# Altium integrated library NXP Semiconductors Standard MOSFETs.IntLib: 477 symbols (part 8 of 14)
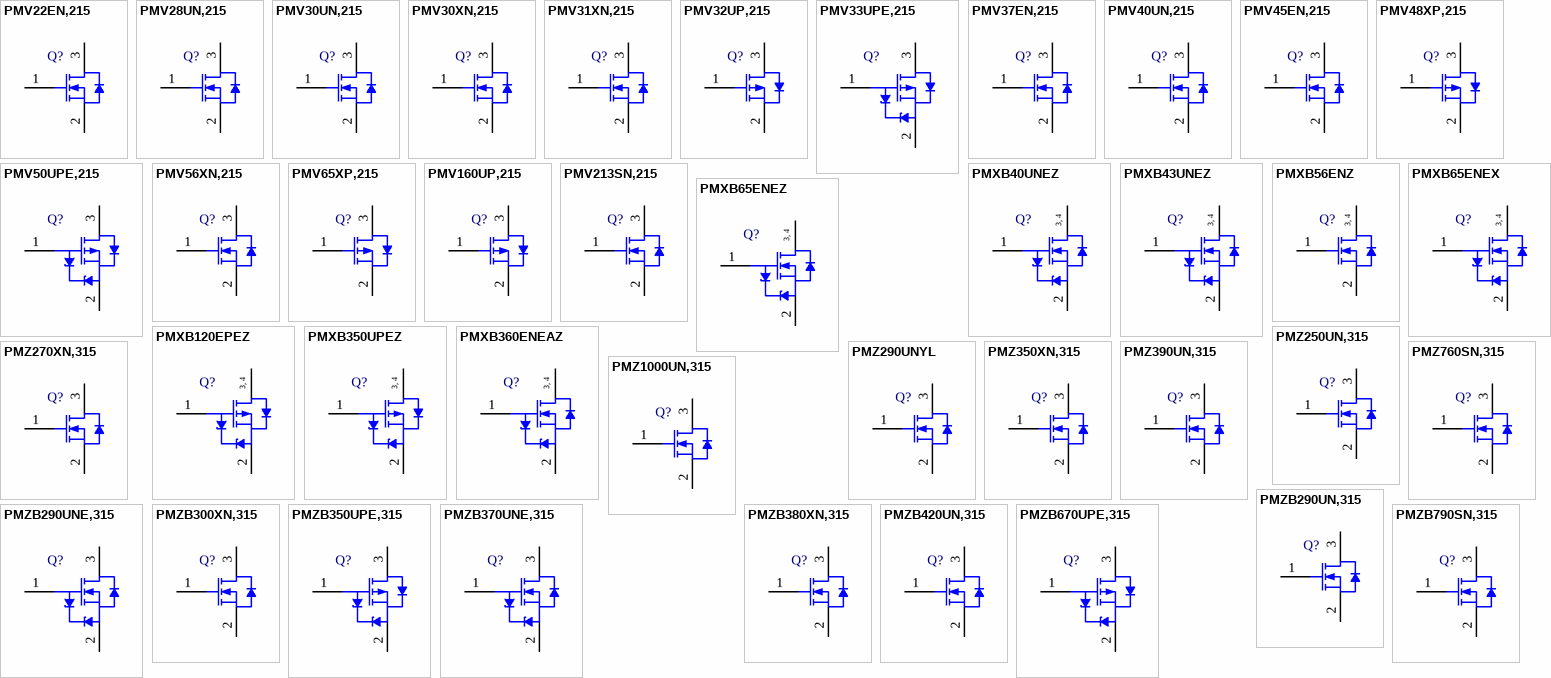
[diagram p19: symbols PMV22EN,215 to PMZB790SN,315]

## PMZ760SN,315
designator Q?
N-Channel TrenchMOS Standard Level FET, 60 V, 1.22 A, 3-Pin SOT883, Tape and Reel; Manufacturer: NXP Semiconductors; PartNumber: PMZ760SN,315; Channel Type: N; Ciss [typ] (pF): 23; Coss [typ] (pF): 4.8; ID [max] (A): 1.22; Packing: Tape & Reel; VDS [max] (V): 60; VGSth [typ] (V): 2; DatasheetVersion: Rev. 02; PackageVersion: 03-04-03, 04/2003; PackageReference: SOT883; PackageDescription: 3-Pin Small Outline No-Lead, Body 0.585 x 0.985 mm, Pitch 0.35 mm; Supplier 1: Digi-Key; Supplier Part Number 1: 568-7443-2-ND; Supplier 2: Digi-Key; Supplier Part Number 2: 568-7443-1-ND; Supplier 3: Digi-Key; Supplier Part Number 3: 568-7443-6-ND; Supplier 4: Farnell; Supplier Part Number 4: 1758122RL; Supplier 5: Newark; Supplier Part Number 5: 79R2052; Supplier 6: Mouser; Supplier Part Number 6: 771-PMZ760SN315; Mounting Technology: Surface Mount; Code_JEITA: SC-101; ComponentLink1Description: Manufacturer URL; ComponentLink1URL: http://www.nxp.com/; ComponentLink2Description: Datasheet; ComponentLink2URL: http://www.nxp.com/documents/data_sheet/PMZ760SN.pdf; ComponentLink3Description: Package Specification; ComponentLink3URL: http://www.nxp.com/documents/outline_drawing/sot883_po.pdf
footprint NXP-SOT883_N (SON, 3-Leads, Body 1.02x0.62mm, Pitch 0.35mm, IPC Medium Density)
footprint NXP-SOT883_L (SON, 3-Leads, Body 1.02x0.62mm, Pitch 0.35mm, IPC High Density)
footprint NXP-SOT883_M (SON, 3-Leads, Body 1.02x0.62mm, Pitch 0.35mm, IPC Low Density)
pins: 1 G "gate", 2 S "source", 3 D "drain"

## PMZ1000UN,315
designator Q?
N-Channel TrenchMOS Standard Level FET, 30 V, 0.48 A, 3-Pin SOT883, Tape and Reel; Manufacturer: NXP Semiconductors; PartNumber: PMZ1000UN,315; Channel Type: N; Ciss [typ] (pF): 43; Coss [typ] (pF): 7.7; ID [max] (A): 0.48; Packing: Tape & Reel; VDS [max] (V): 30; VGSth [typ] (V): 0.7; DatasheetVersion: Rev. 2; PackageVersion: 03-04-03, 04/2003; PackageReference: SOT883; PackageDescription: 3-Pin Small Outline No-Lead, Body 0.585 x 0.985 mm, Pitch 0.35 mm; Supplier 1: Digi-Key; Supplier Part Number 1: 568-7439-2-ND; Supplier 2: Digi-Key; Supplier Part Number 2: 568-7439-1-ND; Supplier 3: Digi-Key; Supplier Part Number 3: 568-7439-6-ND; Supplier 4: Newark; Supplier Part Number 4: 70R7874; Supplier 5: Mouser; Supplier Part Number 5: 771-PMZ1000UN315; Mounting Technology: Surface Mount; Code_JEITA: SC-101; ComponentLink1Description: Manufacturer URL; ComponentLink1URL: http://www.nxp.com/; ComponentLink2Description: Datasheet; ComponentLink2URL: http://www.nxp.com/documents/data_sheet/PMZ1000UN.pdf; ComponentLink3Description: Package Specification; ComponentLink3URL: http://www.nxp.com/documents/outline_drawing/sot883_po.pdf
footprint NXP-SOT883_N (SON, 3-Leads, Body 1.02x0.62mm, Pitch 0.35mm, IPC Medium Density)
footprint NXP-SOT883_L (SON, 3-Leads, Body 1.02x0.62mm, Pitch 0.35mm, IPC High Density)
footprint NXP-SOT883_M (SON, 3-Leads, Body 1.02x0.62mm, Pitch 0.35mm, IPC Low Density)
pins: 1 G "gate", 2 S "source", 3 D "drain"

## PMZB290UN,315
designator Q?
Single N-Channel Trench MOSFET, 20 V, 1 A, -55 to 150 degC, 3-Pin SOT883B, Reel; Manufacturer: NXP Semiconductors; PartNumber: PMZB290UN,315; Channel Type: N; Ciss [typ] (pF): 45; Coss [typ] (pF): 11; ID [max] (A): 1; VDS [max] (V): 20; VGSth [typ] (V): 0.7; DatasheetVersion: Rev. 1; PackageVersion: 12-01-03, 01/2012; PackageReference: SOT883B; PackageDescription: 3-Pin Small Outline No-Lead, Body 0.6 x 1 mm, Pitch 0.35 mm; Supplier 1: Digi-Key; Supplier Part Number 1: 568-10448-2-ND; Supplier 2: Digi-Key; Supplier Part Number 2: 568-10448-1-ND; Supplier 3: Digi-Key; Supplier Part Number 3: 568-10448-6-ND; Supplier 4: Mouser; Supplier Part Number 4: 771-PMZB290UN,315; Packing: Reel; Mounting Technology: Surface Mount; ComponentLink1Description: Manufacturer URL; ComponentLink1URL: http://www.nxp.com/; ComponentLink2Description: Datasheet; ComponentLink2URL: http://www.nxp.com/documents/data_sheet/PMZB290UN.pdf; ComponentLink3Description: Package Specification; ComponentLink3URL: http://www.nxp.com/documents/outline_drawing/sot883b_po.pdf
footprint NXP-SOT883B_N (SON, 3-Leads, Body 1.05x0.65mm, Pitch 0.35mm, IPC Medium Density)
footprint NXP-SOT883B_L (SON, 3-Leads, Body 1.05x0.65mm, Pitch 0.35mm, IPC High Density)
footprint NXP-SOT883B_M (SON, 3-Leads, Body 1.05x0.65mm, Pitch 0.35mm, IPC Low Density)
pins: 1 G "gate", 2 S "source", 3 D "drain"

## PMZB290UNE,315
designator Q?
Single N-Channel Trench MOSFET, 20 V, 1 A, -55 to 150 degC, 3-Pin SOT883B, Reel; Manufacturer: NXP Semiconductors; PartNumber: PMZB290UNE,315; Channel Type: N; Ciss [typ] (pF): 55; Coss [typ] (pF): 15; ID [max] (A): 1; VDS [max] (V): 20; VGSth [typ] (V): 0.75; DatasheetVersion: Rev. 3; PackageVersion: 12-01-03, 01/2012; PackageReference: SOT883B; PackageDescription: 3-Pin Small Outline No-Lead, Body 0.6 x 1 mm, Pitch 0.35 mm; Supplier 1: Digi-Key; Supplier Part Number 1: 568-10840-2-ND; Supplier 2: Digi-Key; Supplier Part Number 2: 568-10840-1-ND; Supplier 3: Digi-Key; Supplier Part Number 3: 568-10840-6-ND; Supplier 4: Mouser; Supplier Part Number 4: 771-PMZB290UNE315; Packing: Reel; Mounting Technology: Surface Mount; ComponentLink1Description: Manufacturer URL; ComponentLink1URL: http://www.nxp.com/; ComponentLink2Description: Datasheet; ComponentLink2URL: http://www.nxp.com/documents/data_sheet/PMZB290UNE.pdf; ComponentLink3Description: Package Specification; ComponentLink3URL: http://www.nxp.com/documents/outline_drawing/sot883b_po.pdf
footprint NXP-SOT883B_N (SON, 3-Leads, Body 1.05x0.65mm, Pitch 0.35mm, IPC Medium Density)
footprint NXP-SOT883B_L (SON, 3-Leads, Body 1.05x0.65mm, Pitch 0.35mm, IPC High Density)
footprint NXP-SOT883B_M (SON, 3-Leads, Body 1.05x0.65mm, Pitch 0.35mm, IPC Low Density)
pins: 1 G "gate", 2 S "source", 3 D "drain"

## PMZB300XN,315
designator Q?
Single N-Channel Trench MOSFET, 20 V, 1 A, -55 to 150 degC, 3-Pin SOT883B, Reel; Manufacturer: NXP Semiconductors; PartNumber: PMZB300XN,315; Channel Type: N; Ciss [typ] (pF): 34; Coss [typ] (pF): 12; ID [max] (A): 1; VDS [max] (V): 20; DatasheetVersion: Rev. 1; PackageVersion: 12-01-03, 01/2012; PackageReference: SOT883B; PackageDescription: 3-Pin Small Outline No-Lead, Body 0.6 x 1 mm, Pitch 0.35 mm; Supplier 1: Digi-Key; Supplier Part Number 1: 568-10841-2-ND; Supplier 2: Digi-Key; Supplier Part Number 2: 568-10841-1-ND; Supplier 3: Digi-Key; Supplier Part Number 3: 568-10841-6-ND; Supplier 4: Mouser; Supplier Part Number 4: 771-PMZB300XN,315; Packing: Reel; VGSth [typ] (V): 1; Mounting Technology: Surface Mount; ComponentLink1Description: Manufacturer URL; ComponentLink1URL: http://www.nxp.com/; ComponentLink2Description: Datasheet; ComponentLink2URL: http://www.nxp.com/documents/data_sheet/PMZB300XN.pdf; ComponentLink3Description: Package Specification; ComponentLink3URL: http://www.nxp.com/documents/outline_drawing/sot883b_po.pdf
footprint NXP-SOT883B_N (SON, 3-Leads, Body 1.05x0.65mm, Pitch 0.35mm, IPC Medium Density)
footprint NXP-SOT883B_L (SON, 3-Leads, Body 1.05x0.65mm, Pitch 0.35mm, IPC High Density)
footprint NXP-SOT883B_M (SON, 3-Leads, Body 1.05x0.65mm, Pitch 0.35mm, IPC Low Density)
pins: 1 G "gate", 2 S "source", 3 D "drain"

## PMZB350UPE,315
designator Q?
Single P-Channel Trench MOSFET, -20 V, -55 to 150 degC, 3-Pin SOT883B, Reel; Manufacturer: NXP Semiconductors; PartNumber: PMZB350UPE,315; Channel Type: P; Ciss [typ] (pF): 127; Coss [typ] (pF): 34; VGSth [typ] (V): -0.7; DatasheetVersion: Rev. 1; PackageVersion: 12-01-03, 01/2012; PackageReference: SOT883B; PackageDescription: 3-Pin Small Outline No-Lead, Body 0.6 x 1 mm, Pitch 0.35 mm; Supplier 1: Digi-Key; Supplier Part Number 1: 568-10449-2-ND; Supplier 2: Digi-Key; Supplier Part Number 2: 568-10449-1-ND; Supplier 3: Digi-Key; Supplier Part Number 3: 568-10449-6-ND; Supplier 4: Mouser; Supplier Part Number 4: 771-PMZB350UPE315; Packing: Reel; VDS [max] (V): -20; Mounting Technology: Surface Mount; ComponentLink1Description: Manufacturer URL; ComponentLink1URL: http://www.nxp.com/; ComponentLink2Description: Datasheet; ComponentLink2URL: http://www.nxp.com/documents/data_sheet/PMZB350UPE.pdf; ComponentLink3Description: Package Specification; ComponentLink3URL: http://www.nxp.com/documents/outline_drawing/sot883b_po.pdf
footprint NXP-SOT883B_N (SON, 3-Leads, Body 1.05x0.65mm, Pitch 0.35mm, IPC Medium Density)
footprint NXP-SOT883B_L (SON, 3-Leads, Body 1.05x0.65mm, Pitch 0.35mm, IPC High Density)
footprint NXP-SOT883B_M (SON, 3-Leads, Body 1.05x0.65mm, Pitch 0.35mm, IPC Low Density)
pins: 1 G "gate", 2 S "source", 3 D "drain"

## PMZB370UNE,315
designator Q?
Single N-Channel Trench MOSFET, 30 V, 0.9 A, -55 to 150 degC, 3-Pin SOT883B, Reel; Manufacturer: NXP Semiconductors; PartNumber: PMZB370UNE,315; Channel Type: N; Ciss [typ] (pF): 52; Coss [typ] (pF): 9; ID [max] (A): 0.9; VDS [max] (V): 30; VGSth [typ] (V): 0.77; DatasheetVersion: Rev. 1; PackageVersion: 12-01-03, 01/2012; PackageReference: SOT883B; PackageDescription: 3-Pin Small Outline No-Lead, Body 0.6 x 1 mm, Pitch 0.35 mm; Supplier 1: Digi-Key; Supplier Part Number 1: 568-10842-2-ND; Supplier 2: Digi-Key; Supplier Part Number 2: 568-10842-1-ND; Supplier 3: Digi-Key; Supplier Part Number 3: 568-10842-6-ND; Supplier 4: Mouser; Supplier Part Number 4: 771-PMZB370UNE315; Packing: Reel; Mounting Technology: Surface Mount; ComponentLink1Description: Manufacturer URL; ComponentLink1URL: http://www.nxp.com/; ComponentLink2Description: Datasheet; ComponentLink2URL: http://www.nxp.com/documents/data_sheet/PMZB370UNE.pdf; ComponentLink3Description: Package Specification; ComponentLink3URL: http://www.nxp.com/documents/outline_drawing/sot883b_po.pdf
footprint NXP-SOT883B_N (SON, 3-Leads, Body 1.05x0.65mm, Pitch 0.35mm, IPC Medium Density)
footprint NXP-SOT883B_L (SON, 3-Leads, Body 1.05x0.65mm, Pitch 0.35mm, IPC High Density)
footprint NXP-SOT883B_M (SON, 3-Leads, Body 1.05x0.65mm, Pitch 0.35mm, IPC Low Density)
pins: 1 G "gate", 2 S "source", 3 D "drain"

## PMZB380XN,315
designator Q?
Single N-Channel Trench MOSFET, 30 V, 0.93 A, -55 to 150 degC, 3-Pin SOT883B, Reel; Manufacturer: NXP Semiconductors; PartNumber: PMZB380XN,315; Channel Type: N; Ciss [typ] (pF): 37; Coss [typ] (pF): 8.6; ID [max] (A): 0.93; VDS [max] (V): 30; VGSth [typ] (V): 1; DatasheetVersion: Rev. 1; PackageVersion: 12-01-03, 01/2012; PackageReference: SOT883B; PackageDescription: 3-Pin Small Outline No-Lead, Body 0.6 x 1 mm, Pitch 0.35 mm; Supplier 1: Digi-Key; Supplier Part Number 1: 568-10843-2-ND; Supplier 2: Digi-Key; Supplier Part Number 2: 568-10843-1-ND; Supplier 3: Digi-Key; Supplier Part Number 3: 568-10843-6-ND; Supplier 4: Mouser; Supplier Part Number 4: 771-PMZB380XN,315; Packing: Reel; Mounting Technology: Surface Mount; ComponentLink1Description: Manufacturer URL; ComponentLink1URL: http://www.nxp.com/; ComponentLink2Description: Datasheet; ComponentLink2URL: http://www.nxp.com/documents/data_sheet/PMZB380XN.pdf; ComponentLink3Description: Package Specification; ComponentLink3URL: http://www.nxp.com/documents/outline_drawing/sot883b_po.pdf
footprint NXP-SOT883B_N (SON, 3-Leads, Body 1.05x0.65mm, Pitch 0.35mm, IPC Medium Density)
footprint NXP-SOT883B_L (SON, 3-Leads, Body 1.05x0.65mm, Pitch 0.35mm, IPC High Density)
footprint NXP-SOT883B_M (SON, 3-Leads, Body 1.05x0.65mm, Pitch 0.35mm, IPC Low Density)
pins: 1 G "gate", 2 S "source", 3 D "drain"

## PMZB420UN,315
designator Q?
Single N-Channel Trench MOSFET, 30 V, 0.9 A, -55 to 150 degC, 3-Pin SOT883B, Reel; Manufacturer: NXP Semiconductors; PartNumber: PMZB420UN,315; Channel Type: N; Ciss [typ] (pF): 43; Coss [typ] (pF): 7.7; ID [max] (A): 0.9; VDS [max] (V): 30; VGSth [typ] (V): 0.7; DatasheetVersion: Rev. 1; PackageVersion: 12-01-03, 01/2012; PackageReference: SOT883B; PackageDescription: 3-Pin Small Outline No-Lead, Body 0.6 x 1 mm, Pitch 0.35 mm; Supplier 1: Digi-Key; Supplier Part Number 1: 568-10844-2-ND; Supplier 2: Digi-Key; Supplier Part Number 2: 568-10844-1-ND; Supplier 3: Digi-Key; Supplier Part Number 3: 568-10844-6-ND; Supplier 4: Mouser; Supplier Part Number 4: 771-PMZB420UN,315; Packing: Reel; Mounting Technology: Surface Mount; ComponentLink1Description: Manufacturer URL; ComponentLink1URL: http://www.nxp.com/; ComponentLink2Description: Datasheet; ComponentLink2URL: http://www.nxp.com/documents/data_sheet/PMZB420UN.pdf; ComponentLink3Description: Package Specification; ComponentLink3URL: http://www.nxp.com/documents/outline_drawing/sot883b_po.pdf
footprint NXP-SOT883B_N (SON, 3-Leads, Body 1.05x0.65mm, Pitch 0.35mm, IPC Medium Density)
footprint NXP-SOT883B_L (SON, 3-Leads, Body 1.05x0.65mm, Pitch 0.35mm, IPC High Density)
footprint NXP-SOT883B_M (SON, 3-Leads, Body 1.05x0.65mm, Pitch 0.35mm, IPC Low Density)
pins: 1 G "gate", 2 S "source", 3 D "drain"

## PMZB670UPE,315
designator Q?
Single P-Channel Trench MOSFET, -20 V, -0.68 A, -55 to 150 degC, 3-Pin SOT883B, Reel; Manufacturer: NXP Semiconductors; PartNumber: PMZB670UPE,315; Channel Type: P; Ciss [typ] (pF): 58; Coss [typ] (pF): 21; VGSth [typ] (V): -0.9; DatasheetVersion: Rev. 3; PackageVersion: 12-01-03, 01/2012; PackageReference: SOT883B; PackageDescription: 3-Pin Small Outline No-Lead, Body 0.6 x 1 mm, Pitch 0.35 mm; Supplier 1: Digi-Key; Supplier Part Number 1: 568-10845-2-ND; Supplier 2: Digi-Key; Supplier Part Number 2: 568-10845-1-ND; Supplier 3: Digi-Key; Supplier Part Number 3: 568-10845-6-ND; Supplier 4: Mouser; Supplier Part Number 4: 771-PMZB670UPE315; ID [max] (A): -0.68; Packing: Reel; VDS [max] (V): -20; Mounting Technology: Surface Mount; ComponentLink1Description: Manufacturer URL; ComponentLink1URL: http://www.nxp.com/; ComponentLink2Description: Datasheet; ComponentLink2URL: http://www.nxp.com/documents/data_sheet/PMZB670UPE.pdf; ComponentLink3Description: Package Specification; ComponentLink3URL: http://www.nxp.com/documents/outline_drawing/sot883b_po.pdf
footprint NXP-SOT883B_N (SON, 3-Leads, Body 1.05x0.65mm, Pitch 0.35mm, IPC Medium Density)
footprint NXP-SOT883B_L (SON, 3-Leads, Body 1.05x0.65mm, Pitch 0.35mm, IPC High Density)
footprint NXP-SOT883B_M (SON, 3-Leads, Body 1.05x0.65mm, Pitch 0.35mm, IPC Low Density)
pins: 1 G "gate", 2 S "source", 3 D "drain"

## PMZB790SN,315
designator Q?
Single N-Channel Trench MOSFET, 60 V, 0.65 A, -55 to 150 degC, 3-Pin SOT883B, Reel; Manufacturer: NXP Semiconductors; PartNumber: PMZB790SN,315; Channel Type: N; Ciss [typ] (pF): 23; Coss [typ] (pF): 4.8; ID [max] (A): 0.65; VDS [max] (V): 60; VGSth [typ] (V): 2; DatasheetVersion: Rev. 1; PackageVersion: 12-01-03, 01/2012; PackageReference: SOT883B; PackageDescription: 3-Pin Small Outline No-Lead, Body 0.6 x 1 mm, Pitch 0.35 mm; Supplier 1: Digi-Key; Supplier Part Number 1: 568-10846-2-ND; Supplier 2: Digi-Key; Supplier Part Number 2: 568-10846-1-ND; Supplier 3: Digi-Key; Supplier Part Number 3: 568-10846-6-ND; Supplier 4: Mouser; Supplier Part Number 4: 771-PMZB790SN,315; Packing: Reel; Mounting Technology: Surface Mount; ComponentLink1Description: Manufacturer URL; ComponentLink1URL: http://www.nxp.com/; ComponentLink2Description: Datasheet; ComponentLink2URL: http://www.nxp.com/documents/data_sheet/PMZB790SN.pdf; ComponentLink3Description: Package Specification; ComponentLink3URL: http://www.nxp.com/documents/outline_drawing/sot883b_po.pdf
footprint NXP-SOT883B_N (SON, 3-Leads, Body 1.05x0.65mm, Pitch 0.35mm, IPC Medium Density)
footprint NXP-SOT883B_L (SON, 3-Leads, Body 1.05x0.65mm, Pitch 0.35mm, IPC High Density)
footprint NXP-SOT883B_M (SON, 3-Leads, Body 1.05x0.65mm, Pitch 0.35mm, IPC Low Density)
pins: 1 G "gate", 2 S "source", 3 D "drain"

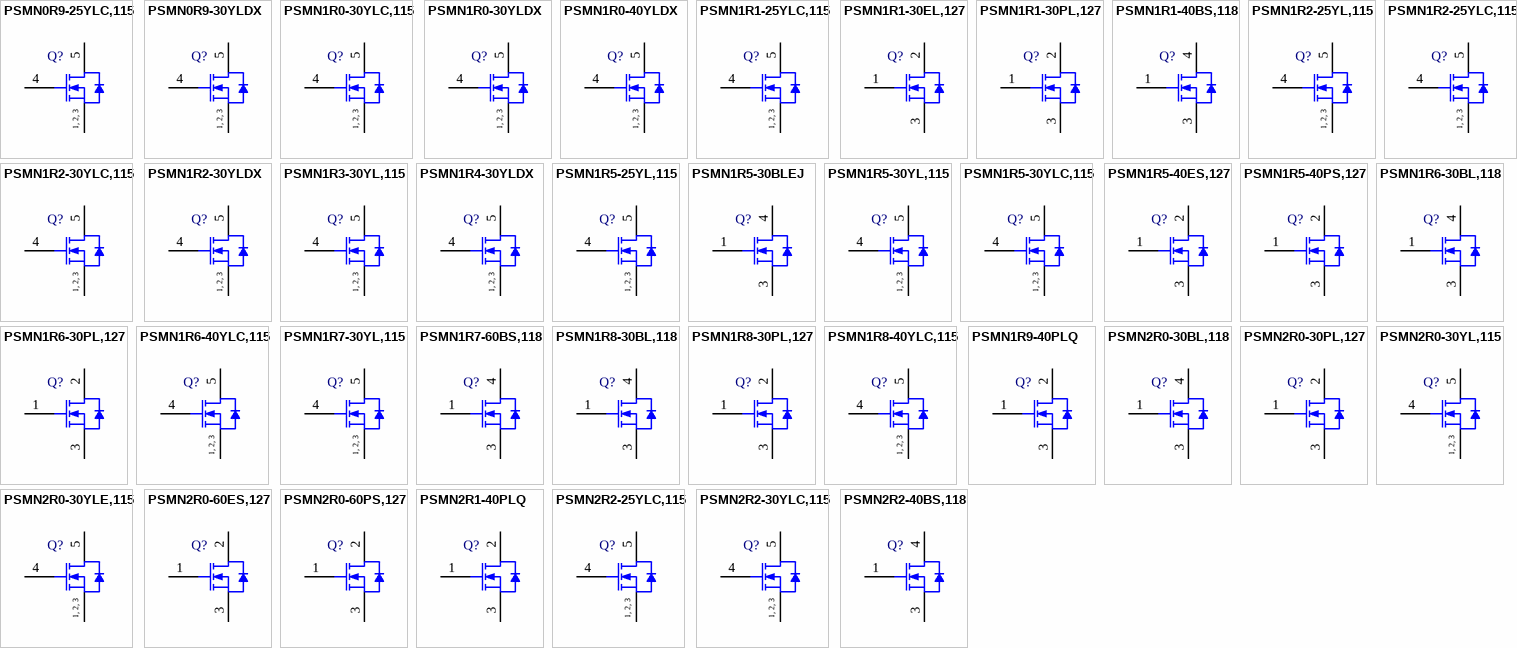
[diagram p7: symbols PSMN0R9-25YLC,115 to PSMN2R2-40BS,118]

## PSMN0R9-25YLC,115
designator Q?
N-Channel Logic Level MOSFET Using NextPower Technology, 25 V, 100 A, 5-Pin SOT669, Tape and Reel; Manufacturer: NXP Semiconductors; PartNumber: PSMN0R9-25YLC,115; Channel Type: N; Ciss [typ] (pF): 6775; Coss [typ] (pF): 1437; ID [max] (A): 100; Packing: Tape & Reel; Qr [typ] (nC): 60; VDS [max] (V): 25; VGSth [typ] (V): 1.41; DatasheetVersion: Rev. 2; PackageVersion: 13-02-27, 02/2013; PackageReference: SOT669; PackageDescription: 4-Pin Plastic Single-ended Surface Mounted Package, Body 4.9 x 3.95 mm, Pitch 1.27 mm; Supplier 1: Digi-Key; Supplier Part Number 1: 568-6720-2-ND; Supplier 2: Digi-Key; Supplier Part Number 2: 568-6720-1-ND; Supplier 3: Digi-Key; Supplier Part Number 3: 568-6720-6-ND; Supplier 4: Newark; Supplier Part Number 4: 47T5630; Supplier 5: Mouser; Supplier Part Number 5: 771-PSMN0R925YLC115; Mounting Technology: Surface Mount; Code_JEDEC: MO-235; ComponentLink1Description: Manufacturer URL; ComponentLink1URL: http://www.nxp.com/; ComponentLink2Description: Datasheet; ComponentLink2URL: http://www.nxp.com/documents/data_sheet/PSMN0R9-25YLC.pdf; ComponentLink3Description: Package Specification; ComponentLink3URL: http://www.nxp.com/documents/outline_drawing/sot669_po.pdf
footprint NXP-SOT669_N (DPAK, 4-Leads, Body 5x4.1mm, Pitch 1.27mm, IPC Medium Density)
footprint NXP-SOT669_L (DPAK, 4-Leads, Body 5x4.1mm, Pitch 1.27mm, IPC High Density)
footprint NXP-SOT669_M (DPAK, 4-Leads, Body 5x4.1mm, Pitch 1.27mm, IPC Low Density)
pins: 1 S "source", 2 S "source", 3 S "source", 4 G "gate", 5 D "mounting base; connected to drain"
text: 1, 2, 3

## PSMN0R9-30YLDX
designator Q?
N-Channel Logic Level MOSFET Using NextPowerS3 Technology, 30 V, 100 A, 5-Pin SOT1023, Tape and Reel; Manufacturer: NXP Semiconductors; PartNumber: PSMN0R9-30YLDX; Channel Type: N; Ciss [typ] (pF): 7668; Coss [typ] (pF): 2914; ID [max] (A): 100; Packing: Tape & Reel; Qr [typ] (nC): 67; VDS [max] (V): 30; VGSth [typ] (V): 1.5; PackageVersion: 13-03-05, 03/2013; PackageReference: SOT1023; PackageDescription: 4-Pin Plastic Single-ended Surface Mounted Package, Body 5.125 x 4.575 mm, Pitch 1.27 mm; Supplier 1: Digi-Key; Supplier Part Number 1: 568-11554-2-ND; Supplier 2: Digi-Key; Supplier Part Number 2: 568-11554-1-ND; Supplier 3: Digi-Key; Supplier Part Number 3: 568-11554-6-ND; Supplier 4: Newark; Supplier Part Number 4: 27X7544; Supplier 5: Mouser; Supplier Part Number 5: 771-PSMN0R9-30YLDX; Mounting Technology: Surface Mount; ComponentLink1Description: Manufacturer URL; ComponentLink1URL: http://www.nxp.com/; ComponentLink2Description: Datasheet; ComponentLink2URL: http://www.nxp.com/documents/data_sheet/PSMN0R9-30YLD.pdf; ComponentLink3Description: Package Specification; ComponentLink3URL: http://www.nxp.com/documents/outline_drawing/sot1023_po.pdf
footprint NXP-SOT1023_N (DPAK, 4-Leads, Body 5.3x4.7mm, Pitch 1.27mm, IPC Medium Density)
footprint NXP-SOT1023_L (DPAK, 4-Leads, Body 5.3x4.7mm, Pitch 1.27mm, IPC High Density)
footprint NXP-SOT1023_M (DPAK, 4-Leads, Body 5.3x4.7mm, Pitch 1.27mm, IPC Low Density)
pins: 1 S "source", 2 S "source", 3 S "source", 4 G "gate", 5 D "mounting base; connected to drain"
text: 1, 2, 3

## PSMN1R0-30YLC,115
designator Q?
N-Channel Logic Level MOSFET Using NextPower Technology, 30 V, 100 A, 5-Pin SOT669, Tape and Reel; Manufacturer: NXP Semiconductors; PartNumber: PSMN1R0-30YLC,115; Channel Type: N; Ciss [typ] (pF): 6645; Coss [typ] (pF): 1210; ID [max] (A): 100; Packing: Tape & Reel; Qr [typ] (nC): 67; VDS [max] (V): 30; VGSth [typ] (V): 1.41; DatasheetVersion: Rev. 4; PackageVersion: 13-02-27, 02/2013; PackageReference: SOT669; PackageDescription: 4-Pin Plastic Single-ended Surface Mounted Package, Body 4.9 x 3.95 mm, Pitch 1.27 mm; Supplier 1: Digi-Key; Supplier Part Number 1: 568-6721-2-ND; Supplier 2: Digi-Key; Supplier Part Number 2: 568-6721-1-ND; Supplier 3: Digi-Key; Supplier Part Number 3: 568-6721-6-ND; Supplier 4: Newark; Supplier Part Number 4: 41T4402; Supplier 5: Mouser; Supplier Part Number 5: 771-PSMN1R0-30YLC115; Mounting Technology: Surface Mount; Code_JEDEC: MO-235; ComponentLink1Description: Manufacturer URL; ComponentLink1URL: http://www.nxp.com/; ComponentLink2Description: Datasheet; ComponentLink2URL: http://www.nxp.com/documents/data_sheet/PSMN1R0-30YLC.pdf; ComponentLink3Description: Package Specification; ComponentLink3URL: http://www.nxp.com/documents/outline_drawing/sot669_po.pdf
footprint NXP-SOT669_N (DPAK, 4-Leads, Body 5x4.1mm, Pitch 1.27mm, IPC Medium Density)
footprint NXP-SOT669_L (DPAK, 4-Leads, Body 5x4.1mm, Pitch 1.27mm, IPC High Density)
footprint NXP-SOT669_M (DPAK, 4-Leads, Body 5x4.1mm, Pitch 1.27mm, IPC Low Density)
pins: 1 S "source", 2 S "source", 3 S "source", 4 G "gate", 5 D "mounting base; connected to drain"
text: 1, 2, 3

## PSMN1R0-30YLDX
designator Q?
N-Channel Logic Level MOSFET Using NextPowerS3 Technology, 30 V, 100 A, 5-Pin SOT669, Tape and Reel; Manufacturer: NXP Semiconductors; PartNumber: PSMN1R0-30YLDX; Channel Type: N; Ciss [typ] (pF): 5732; Coss [typ] (pF): 2424; ID [max] (A): 100; Packing: Tape & Reel; Qr [typ] (nC): 67.1; VDS [max] (V): 30; VGSth [typ] (V): 1.75; PackageVersion: 13-02-27, 02/2013; PackageReference: SOT669; PackageDescription: 4-Pin Plastic Single-ended Surface Mounted Package, Body 4.9 x 3.95 mm, Pitch 1.27 mm; Supplier 1: Digi-Key; Supplier Part Number 1: 568-11555-2-ND; Supplier 2: Digi-Key; Supplier Part Number 2: 568-11555-1-ND; Supplier 3: Digi-Key; Supplier Part Number 3: 568-11555-6-ND; Supplier 4: Newark; Supplier Part Number 4: 27X7545; Supplier 5: Mouser; Supplier Part Number 5: 771-PSMN1R0-30YLDX; Mounting Technology: Surface Mount; Code_JEDEC: MO-235; ComponentLink1Description: Manufacturer URL; ComponentLink1URL: http://www.nxp.com/; ComponentLink2Description: Datasheet; ComponentLink2URL: http://www.nxp.com/documents/data_sheet/PSMN1R0-30YLD.pdf; ComponentLink3Description: Package Specification; ComponentLink3URL: http://www.nxp.com/documents/outline_drawing/sot669_po.pdf
footprint NXP-SOT669_N (DPAK, 4-Leads, Body 5x4.1mm, Pitch 1.27mm, IPC Medium Density)
footprint NXP-SOT669_L (DPAK, 4-Leads, Body 5x4.1mm, Pitch 1.27mm, IPC High Density)
footprint NXP-SOT669_M (DPAK, 4-Leads, Body 5x4.1mm, Pitch 1.27mm, IPC Low Density)
pins: 1 S "source", 2 S "source", 3 S "source", 4 G "gate", 5 D "mounting base; connected to drain"
text: 1, 2, 3

## PSMN1R0-40YLDX
designator Q?
N-Channel Logic Level MOSFET Using NextPower-S3 Schottky-Plus Technology, 40 V, 100 A, 5-Pin SOT1023, Tape and Reel; Manufacturer: NXP Semiconductors; PartNumber: PSMN1R0-40YLDX; Channel Type: N; Ciss [typ] (pF): 8845; Coss [typ] (pF): 1878; ID [max] (A): 100; Packing: Tape & Reel; Qr [typ] (nC): 67; VDS [max] (V): 40; VGSth [typ] (V): 1.7; PackageVersion: 13-03-05, 03/2013; PackageReference: SOT1023; PackageDescription: 4-Pin Plastic Single-ended Surface Mounted Package, Body 5.125 x 4.575 mm, Pitch 1.27 mm; Supplier 1: Digi-Key; Supplier Part Number 1: 568-11552-2-ND; Supplier 2: Digi-Key; Supplier Part Number 2: 568-11552-1-ND; Supplier 3: Digi-Key; Supplier Part Number 3: 568-11552-6-ND; Supplier 4: Newark; Supplier Part Number 4: 85X3503; Supplier 5: Mouser; Supplier Part Number 5: 771-PSMN1R0-40YLDX; Mounting Technology: Surface Mount; ComponentLink1Description: Manufacturer URL; ComponentLink1URL: http://www.nxp.com/; ComponentLink2Description: Datasheet; ComponentLink2URL: http://www.nxp.com/documents/data_sheet/PSMN1R0-40YLD.pdf; ComponentLink3Description: Package Specification; ComponentLink3URL: http://www.nxp.com/documents/outline_drawing/sot1023_po.pdf
footprint NXP-SOT1023_N (DPAK, 4-Leads, Body 5.3x4.7mm, Pitch 1.27mm, IPC Medium Density)
footprint NXP-SOT1023_L (DPAK, 4-Leads, Body 5.3x4.7mm, Pitch 1.27mm, IPC High Density)
footprint NXP-SOT1023_M (DPAK, 4-Leads, Body 5.3x4.7mm, Pitch 1.27mm, IPC Low Density)
pins: 1 S "source", 2 S "source", 3 S "source", 4 G "gate", 5 D "mounting base; connected to drain"
text: 1, 2, 3

## PSMN1R1-25YLC,115
designator Q?
N-Channel Logic Level MOSFET Using NextPower Technology, 25 V, 100 A, 5-Pin SOT669, Tape and Reel; Manufacturer: NXP Semiconductors; PartNumber: PSMN1R1-25YLC,115; Channel Type: N; Ciss [typ] (pF): 5287; Coss [typ] (pF): 1121; ID [max] (A): 100; Packing: Tape & Reel; Qr [typ] (nC): 42; VDS [max] (V): 25; VGSth [typ] (V): 1.43; DatasheetVersion: Rev. 1; PackageVersion: 13-02-27, 02/2013; PackageReference: SOT669; PackageDescription: 4-Pin Plastic Single-ended Surface Mounted Package, Body 4.9 x 3.95 mm, Pitch 1.27 mm; Supplier 1: Digi-Key; Supplier Part Number 1: 568-6726-2-ND; Supplier 2: Digi-Key; Supplier Part Number 2: 568-6726-1-ND; Supplier 3: Digi-Key; Supplier Part Number 3: 568-6726-6-ND; Supplier 4: Newark; Supplier Part Number 4: 47T5631; Supplier 5: Mouser; Supplier Part Number 5: 771-PSMN1R125YLC115; Mounting Technology: Surface Mount; Code_JEDEC: MO-235; ComponentLink1Description: Manufacturer URL; ComponentLink1URL: http://www.nxp.com/; ComponentLink2Description: Datasheet; ComponentLink2URL: http://www.nxp.com/documents/data_sheet/PSMN1R1-25YLC.pdf; ComponentLink3Description: Package Specification; ComponentLink3URL: http://www.nxp.com/documents/outline_drawing/sot669_po.pdf
footprint NXP-SOT669_N (DPAK, 4-Leads, Body 5x4.1mm, Pitch 1.27mm, IPC Medium Density)
footprint NXP-SOT669_L (DPAK, 4-Leads, Body 5x4.1mm, Pitch 1.27mm, IPC High Density)
footprint NXP-SOT669_M (DPAK, 4-Leads, Body 5x4.1mm, Pitch 1.27mm, IPC Low Density)
pins: 1 S "source", 2 S "source", 3 S "source", 4 G "gate", 5 D "mounting base; connected to drain"
text: 1, 2, 3

## PSMN1R1-30EL,127
designator Q?
N-Channel Logic Level MOSFET, 30 V, 120 A, 3-Pin SOT226, Rail; Manufacturer: NXP Semiconductors; PartNumber: PSMN1R1-30EL,127; Channel Type: N; Ciss [typ] (pF): 14850; Coss [typ] (pF): 2799; ID [max] (A): 120; Qr [typ] (nC): 123; VDS [max] (V): 30; VGSth [typ] (V): 1.7; PackageVersion: 09-08-25, 08/2009; PackageReference: SOT226; PackageDescription: 3-Pin Flange Mount, Vertical Straight Lead, Body 10 x 4.3 mm, Pitch 2.54 mm; Supplier 1: Digi-Key; Supplier Part Number 1: 568-6715-5-ND; Supplier 2: Mouser; Supplier Part Number 2: 771-PSMN1R130EL127; Packing: Rail; Mounting Technology: Through Hole; Code_JEDEC: TO-262; ComponentLink1Description: Manufacturer URL; ComponentLink1URL: http://www.nxp.com/; ComponentLink2Description: Datasheet; ComponentLink2URL: http://www.nxp.com/documents/data_sheet/PSMN1R1-30EL.pdf; ComponentLink3Description: Package Specification; ComponentLink3URL: http://www.nxp.com/documents/outline_drawing/sot226_po.pdf
footprint NXP-SOT226 (FM, 3-Leads, Body 10.3x4.5mm, Pitch 2.54mm)
pins: 1 G "gate", 2 D "drain", 3 S "source"

## PSMN1R1-30PL,127
designator Q?
N-Channel Logic Level MOSFET, 30 V, 120 A, 3-Pin SOT78, Tube; Manufacturer: NXP Semiconductors; PartNumber: PSMN1R1-30PL,127; Channel Type: N; Ciss [typ] (pF): 14850; Coss [typ] (pF): 2799; ID [max] (A): 120; Qr [typ] (nC): 123; VDS [max] (V): 30; VGSth [typ] (V): 1.7; PackageVersion: 08-06-13, 06/2008; PackageReference: SOT78; PackageDescription: 3-Pin Flange Mount, Vertical Straight Lead, Body 10 x 4.4 mm, Pitch 2.54 mm; Supplier 1: Digi-Key; Supplier Part Number 1: 568-6719-5-ND; Supplier 2: Newark; Supplier Part Number 2: 54T9416; Supplier 3: Mouser; Supplier Part Number 3: 771-PSMN1R130PL127; Packing: Tube; Mounting Technology: Through Hole; Code_JEITA: SC-46; Code_JEDEC: 3-lead TO-220AB; ComponentLink1Description: Manufacturer URL; ComponentLink1URL: http://www.nxp.com/; ComponentLink2Description: Datasheet; ComponentLink2URL: http://www.nxp.com/documents/data_sheet/PSMN1R1-30PL.pdf; ComponentLink3Description: Package Specification; ComponentLink3URL: http://www.nxp.com/documents/outline_drawing/sot078_po.pdf
footprint NXP-SOT78 (FM, 3-Leads, Body 10.3x4.7mm, Pitch 2.54mm)
pins: 1 G "gate", 2 D "drain", 3 S "source"

## PSMN1R1-40BS,118
designator Q?
N-Channel Standard Level MOSFET, 40 V, 120 A, 3-Pin SOT404, Tape and Reel; Manufacturer: NXP Semiconductors; PartNumber: PSMN1R1-40BS,118; Channel Type: N; Ciss [typ] (pF): 9710; Coss [typ] (pF): 2042; ID [max] (A): 120; Packing: Tape & Reel; Qr [typ] (nC): 117; VDS [max] (V): 40; VGSth [typ] (V): 3; DatasheetVersion: Rev. 2; PackageVersion: 13-02-25, 02/2013; PackageReference: SOT404; PackageDescription: 3-Pin Plastic Single-ended Surface Mounted Package, Body 10 x 9.6 mm, Pitch 2.54 mm; Supplier 1: Digi-Key; Supplier Part Number 1: 568-9475-2-ND; Supplier 2: Digi-Key; Supplier Part Number 2: 568-9475-1-ND; Supplier 3: Digi-Key; Supplier Part Number 3: 568-9475-6-ND; Supplier 4: Mouser; Supplier Part Number 4: 771-PSMN1R1-40BS,118; Mounting Technology: Surface Mount; ComponentLink1Description: Manufacturer URL; ComponentLink1URL: http://www.nxp.com/; ComponentLink2Description: Datasheet; ComponentLink2URL: http://www.nxp.com/documents/data_sheet/PSMN1R1-40BS.pdf; ComponentLink3Description: Package Specification; ComponentLink3URL: http://www.nxp.com/documents/outline_drawing/sot404_po.pdf
footprint NXP-SOT404_N (DPAK, 3-Leads, Body 10.3x9.8mm, Pitch 2.54mm, IPC Medium Density)
footprint NXP-SOT404_L (DPAK, 3-Leads, Body 10.3x9.8mm, Pitch 2.54mm, IPC High Density)
footprint NXP-SOT404_M (DPAK, 3-Leads, Body 10.3x9.8mm, Pitch 2.54mm, IPC Low Density)
pins: 1 G "gate", 3 S "source", 4 D "mounting base; connected to drain"

## PSMN1R2-25YL,115
designator Q?
N-Channel Logic Level MOSFET, 25 V, 100 A, 5-Pin SOT1023, Tape and Reel; Manufacturer: NXP Semiconductors; PartNumber: PSMN1R2-25YL,115; Channel Type: N; Ciss [typ] (pF): 6380; Coss [typ] (pF): 1640; ID [max] (A): 100; Packing: Tape & Reel; Qr [typ] (nC): 66; VDS [max] (V): 25; VGSth [typ] (V): 1.7; DatasheetVersion: Rev. 01; PackageVersion: 13-03-05, 03/2013; PackageReference: SOT1023; PackageDescription: 4-Pin Plastic Single-ended Surface Mounted Package, Body 5.125 x 4.575 mm, Pitch 1.27 mm; Supplier 1: Digi-Key; Supplier Part Number 1: 568-4909-2-ND; Supplier 2: Digi-Key; Supplier Part Number 2: 568-4909-1-ND; Supplier 3: Digi-Key; Supplier Part Number 3: 568-4909-6-ND; Supplier 4: Farnell; Supplier Part Number 4: 2251191; Supplier 5: Newark; Supplier Part Number 5: 79R2060; Supplier 6: Newark; Supplier Part Number 6: 70R7950; Supplier 7: Mouser; Supplier Part Number 7: 771-PSMN1R2-25YL,115; Mounting Technology: Surface Mount; ComponentLink1Description: Manufacturer URL; ComponentLink1URL: http://www.nxp.com/; ComponentLink2Description: Datasheet; ComponentLink2URL: http://www.nxp.com/documents/data_sheet/PSMN1R2-25YL.pdf; ComponentLink3Description: Package Specification; ComponentLink3URL: http://www.nxp.com/documents/outline_drawing/sot1023_po.pdf
footprint NXP-SOT1023_N (DPAK, 4-Leads, Body 5.3x4.7mm, Pitch 1.27mm, IPC Medium Density)
footprint NXP-SOT1023_L (DPAK, 4-Leads, Body 5.3x4.7mm, Pitch 1.27mm, IPC High Density)
footprint NXP-SOT1023_M (DPAK, 4-Leads, Body 5.3x4.7mm, Pitch 1.27mm, IPC Low Density)
pins: 1 S "source", 2 S "source", 3 S "source", 4 G "gate", 5 D "mounting base; connected to drain"
text: 1, 2, 3

## PSMN1R2-25YLC,115
designator Q?
N-Channel Logic Level MOSFET Using NextPower Technology, 25 V, 100 A, 5-Pin SOT669, Tape and Reel; Manufacturer: NXP Semiconductors; PartNumber: PSMN1R2-25YLC,115; Channel Type: N; Ciss [typ] (pF): 4173; Coss [typ] (pF): 994; ID [max] (A): 100; Packing: Tape & Reel; Qr [typ] (nC): 36; VDS [max] (V): 25; VGSth [typ] (V): 1.45; DatasheetVersion: Rev. 1; PackageVersion: 13-02-27, 02/2013; PackageReference: SOT669; PackageDescription: 4-Pin Plastic Single-ended Surface Mounted Package, Body 4.9 x 3.95 mm, Pitch 1.27 mm; Supplier 1: Digi-Key; Supplier Part Number 1: 568-6722-2-ND; Supplier 2: Digi-Key; Supplier Part Number 2: 568-6722-1-ND; Supplier 3: Digi-Key; Supplier Part Number 3: 568-6722-6-ND; Supplier 4: Mouser; Supplier Part Number 4: 771-PSMN1R225YLC115; Mounting Technology: Surface Mount; Code_JEDEC: MO-235; ComponentLink1Description: Manufacturer URL; ComponentLink1URL: http://www.nxp.com/; ComponentLink2Description: Datasheet; ComponentLink2URL: http://www.nxp.com/documents/data_sheet/PSMN1R2-25YLC.pdf; ComponentLink3Description: Package Specification; ComponentLink3URL: http://www.nxp.com/documents/outline_drawing/sot669_po.pdf
footprint NXP-SOT669_N (DPAK, 4-Leads, Body 5x4.1mm, Pitch 1.27mm, IPC Medium Density)
footprint NXP-SOT669_L (DPAK, 4-Leads, Body 5x4.1mm, Pitch 1.27mm, IPC High Density)
footprint NXP-SOT669_M (DPAK, 4-Leads, Body 5x4.1mm, Pitch 1.27mm, IPC Low Density)
pins: 1 S "source", 2 S "source", 3 S "source", 4 G "gate", 5 D "mounting base; connected to drain"
text: 1, 2, 3

## PSMN1R2-30YLC,115
designator Q?
N-Channel Logic Level MOSFET Using NextPower Technology, 30 V, 100 A, 5-Pin SOT669, Tape and Reel; Manufacturer: NXP Semiconductors; PartNumber: PSMN1R2-30YLC,115; Channel Type: N; Ciss [typ] (pF): 5093; Coss [typ] (pF): 977; ID [max] (A): 100; Packing: Tape & Reel; Qr [typ] (nC): 45; VDS [max] (V): 30; VGSth [typ] (V): 1.46; DatasheetVersion: Rev. 1; PackageVersion: 13-02-27, 02/2013; PackageReference: SOT669; PackageDescription: 4-Pin Plastic Single-ended Surface Mounted Package, Body 4.9 x 3.95 mm, Pitch 1.27 mm; Supplier 1: Digi-Key; Supplier Part Number 1: 568-6724-2-ND; Supplier 2: Digi-Key; Supplier Part Number 2: 568-6724-1-ND; Supplier 3: Digi-Key; Supplier Part Number 3: 568-6724-6-ND; Supplier 4: Mouser; Supplier Part Number 4: 771-PSMN1R230YLC115; Mounting Technology: Surface Mount; Code_JEDEC: MO-235; ComponentLink1Description: Manufacturer URL; ComponentLink1URL: http://www.nxp.com/; ComponentLink2Description: Datasheet; ComponentLink2URL: http://www.nxp.com/documents/data_sheet/PSMN1R2-30YLC.pdf; ComponentLink3Description: Package Specification; ComponentLink3URL: http://www.nxp.com/documents/outline_drawing/sot669_po.pdf
footprint NXP-SOT669_N (DPAK, 4-Leads, Body 5x4.1mm, Pitch 1.27mm, IPC Medium Density)
footprint NXP-SOT669_L (DPAK, 4-Leads, Body 5x4.1mm, Pitch 1.27mm, IPC High Density)
footprint NXP-SOT669_M (DPAK, 4-Leads, Body 5x4.1mm, Pitch 1.27mm, IPC Low Density)
pins: 1 S "source", 2 S "source", 3 S "source", 4 G "gate", 5 D "mounting base; connected to drain"
text: 1, 2, 3

## PSMN1R2-30YLDX
designator Q?
N-Channel Logic Level MOSFET Using NextPowerS3 Technology, 30 V, 100 A, 5-Pin SOT669, Tape and Reel; Manufacturer: NXP Semiconductors; PartNumber: PSMN1R2-30YLDX; Channel Type: N; Ciss [typ] (pF): 4616; Coss [typ] (pF): 2079; ID [max] (A): 100; Packing: Tape & Reel; Qr [typ] (nC): 43; VDS [max] (V): 30; VGSth [typ] (V): 1.7; PackageVersion: 13-02-27, 02/2013; PackageReference: SOT669; PackageDescription: 4-Pin Plastic Single-ended Surface Mounted Package, Body 4.9 x 3.95 mm, Pitch 1.27 mm; Supplier 1: Digi-Key; Supplier Part Number 1: 568-11556-2-ND; Supplier 2: Digi-Key; Supplier Part Number 2: 568-11556-1-ND; Supplier 3: Digi-Key; Supplier Part Number 3: 568-11556-6-ND; Supplier 4: Newark; Supplier Part Number 4: 27X7546; Supplier 5: Mouser; Supplier Part Number 5: 771-PSMN1R2-30YLDX; Mounting Technology: Surface Mount; Code_JEDEC: MO-235; ComponentLink1Description: Manufacturer URL; ComponentLink1URL: http://www.nxp.com/; ComponentLink2Description: Datasheet; ComponentLink2URL: http://www.nxp.com/documents/data_sheet/PSMN1R2-30YLD.pdf; ComponentLink3Description: Package Specification; ComponentLink3URL: http://www.nxp.com/documents/outline_drawing/sot669_po.pdf
footprint NXP-SOT669_N (DPAK, 4-Leads, Body 5x4.1mm, Pitch 1.27mm, IPC Medium Density)
footprint NXP-SOT669_L (DPAK, 4-Leads, Body 5x4.1mm, Pitch 1.27mm, IPC High Density)
footprint NXP-SOT669_M (DPAK, 4-Leads, Body 5x4.1mm, Pitch 1.27mm, IPC Low Density)
pins: 1 S "source", 2 S "source", 3 S "source", 4 G "gate", 5 D "mounting base; connected to drain"
text: 1, 2, 3

## PSMN1R3-30YL,115
designator Q?
N-Channel Logic Level MOSFET, 30 V, 100 A, 5-Pin SOT1023, Tape and Reel; Manufacturer: NXP Semiconductors; PartNumber: PSMN1R3-30YL,115; Channel Type: N; Ciss [typ] (pF): 6227; Coss [typ] (pF): 1415; ID [max] (A): 100; Packing: Tape & Reel; Qr [typ] (nC): 53; VDS [max] (V): 30; VGSth [typ] (V): 1.7; DatasheetVersion: Rev. 02; PackageVersion: 13-03-05, 03/2013; PackageReference: SOT1023; PackageDescription: 4-Pin Plastic Single-ended Surface Mounted Package, Body 5.125 x 4.575 mm, Pitch 1.27 mm; Supplier 1: Digi-Key; Supplier Part Number 1: 568-4908-2-ND; Supplier 2: Digi-Key; Supplier Part Number 2: 568-4908-1-ND; Supplier 3: Digi-Key; Supplier Part Number 3: 568-4908-6-ND; Supplier 4: Newark; Supplier Part Number 4: 70R7951; Supplier 5: Mouser; Supplier Part Number 5: 771-PSMN1R3-30YL,115; Mounting Technology: Surface Mount; ComponentLink1Description: Manufacturer URL; ComponentLink1URL: http://www.nxp.com/; ComponentLink2Description: Datasheet; ComponentLink2URL: http://www.nxp.com/documents/data_sheet/PSMN1R3-30YL.pdf; ComponentLink3Description: Package Specification; ComponentLink3URL: http://www.nxp.com/documents/outline_drawing/sot1023_po.pdf
footprint NXP-SOT1023_N (DPAK, 4-Leads, Body 5.3x4.7mm, Pitch 1.27mm, IPC Medium Density)
footprint NXP-SOT1023_L (DPAK, 4-Leads, Body 5.3x4.7mm, Pitch 1.27mm, IPC High Density)
footprint NXP-SOT1023_M (DPAK, 4-Leads, Body 5.3x4.7mm, Pitch 1.27mm, IPC Low Density)
pins: 1 S "source", 2 S "source", 3 S "source", 4 G "gate", 5 D "mounting base; connected to drain"
text: 1, 2, 3

## PSMN1R4-30YLDX
designator Q?
N-Channel Logic Level MOSFET Using NextPowerS3 Technology, 30 V, 100 A, 5-Pin SOT669, Tape and Reel; Manufacturer: NXP Semiconductors; PartNumber: PSMN1R4-30YLDX; Channel Type: N; Ciss [typ] (pF): 3840; Coss [typ] (pF): 1785; ID [max] (A): 100; Packing: Tape & Reel; Qr [typ] (nC): 34; VDS [max] (V): 30; VGSth [typ] (V): 1.7; PackageVersion: 13-02-27, 02/2013; PackageReference: SOT669; PackageDescription: 4-Pin Plastic Single-ended Surface Mounted Package, Body 4.9 x 3.95 mm, Pitch 1.27 mm; Supplier 1: Digi-Key; Supplier Part Number 1: 568-11557-2-ND; Supplier 2: Digi-Key; Supplier Part Number 2: 568-11557-1-ND; Supplier 3: Digi-Key; Supplier Part Number 3: 568-11557-6-ND; Supplier 4: Newark; Supplier Part Number 4: 27X7547; Supplier 5: Mouser; Supplier Part Number 5: 771-PSMN1R4-30YLDX; Mounting Technology: Surface Mount; Code_JEDEC: MO-235; ComponentLink1Description: Manufacturer URL; ComponentLink1URL: http://www.nxp.com/; ComponentLink2Description: Datasheet; ComponentLink2URL: http://www.nxp.com/documents/data_sheet/PSMN1R4-30YLD.pdf; ComponentLink3Description: Package Specification; ComponentLink3URL: http://www.nxp.com/documents/outline_drawing/sot669_po.pdf
footprint NXP-SOT669_N (DPAK, 4-Leads, Body 5x4.1mm, Pitch 1.27mm, IPC Medium Density)
footprint NXP-SOT669_L (DPAK, 4-Leads, Body 5x4.1mm, Pitch 1.27mm, IPC High Density)
footprint NXP-SOT669_M (DPAK, 4-Leads, Body 5x4.1mm, Pitch 1.27mm, IPC Low Density)
pins: 1 S "source", 2 S "source", 3 S "source", 4 G "gate", 5 D "mounting base; connected to drain"
text: 1, 2, 3

## PSMN1R5-25YL,115
designator Q?
N-Channel TrenchMOS Logic Level FET, 25 V, 100 A, 5-Pin SOT669, Tape and Reel; Manufacturer: NXP Semiconductors; PartNumber: PSMN1R5-25YL,115; Channel Type: N; Ciss [typ] (pF): 4830; Coss [typ] (pF): 1280; ID [max] (A): 100; Packing: Tape & Reel; Qr [typ] (nC): 50; VDS [max] (V): 25; VGSth [typ] (V): 1.7; DatasheetVersion: Rev. 01; PackageVersion: 13-02-27, 02/2013; PackageReference: SOT669; PackageDescription: 4-Pin Plastic Single-ended Surface Mounted Package, Body 4.9 x 3.95 mm, Pitch 1.27 mm; Supplier 1: Digi-Key; Supplier Part Number 1: 568-4907-2-ND; Supplier 2: Digi-Key; Supplier Part Number 2: 568-4907-1-ND; Supplier 3: Digi-Key; Supplier Part Number 3: 568-4907-6-ND; Supplier 4: Newark; Supplier Part Number 4: 79R2061; Supplier 5: Mouser; Supplier Part Number 5: 771-PSMN1R5-25YL,115; Mounting Technology: Surface Mount; Code_JEDEC: MO-235; ComponentLink1Description: Manufacturer URL; ComponentLink1URL: http://www.nxp.com/; ComponentLink2Description: Datasheet; ComponentLink2URL: http://www.nxp.com/documents/data_sheet/PSMN1R5-25YL.pdf; ComponentLink3Description: Package Specification; ComponentLink3URL: http://www.nxp.com/documents/outline_drawing/sot669_po.pdf
footprint NXP-SOT669_N (DPAK, 4-Leads, Body 5x4.1mm, Pitch 1.27mm, IPC Medium Density)
footprint NXP-SOT669_L (DPAK, 4-Leads, Body 5x4.1mm, Pitch 1.27mm, IPC High Density)
footprint NXP-SOT669_M (DPAK, 4-Leads, Body 5x4.1mm, Pitch 1.27mm, IPC Low Density)
pins: 1 S "source", 2 S "source", 3 S "source", 4 G "gate", 5 D "mounting base; connected to drain"
text: 1, 2, 3

## PSMN1R5-30BLEJ
designator Q?
N-Channel Logic Level MOSFET, 30 V, 120 A, 3-Pin SOT404, Tape and Reel; Manufacturer: NXP Semiconductors; PartNumber: PSMN1R5-30BLEJ; Channel Type: N; Ciss [typ] (pF): 14934; Coss [typ] (pF): 2741; ID [max] (A): 120; Packing: Tape & Reel; Qr [typ] (nC): 96.8; VDS [max] (V): 30; VGSth [typ] (V): 1.7; PackageVersion: 13-02-25, 02/2013; PackageReference: SOT404; PackageDescription: 3-Pin Plastic Single-ended Surface Mounted Package, Body 10 x 9.6 mm, Pitch 2.54 mm; Supplier 1: Digi-Key; Supplier Part Number 1: 568-10256-2-ND; Supplier 2: Digi-Key; Supplier Part Number 2: 568-10256-1-ND; Supplier 3: Digi-Key; Supplier Part Number 3: 568-10256-6-ND; Supplier 4: Mouser; Supplier Part Number 4: 771-PSMN1R5-30BLEJ; Mounting Technology: Surface Mount; ComponentLink1Description: Manufacturer URL; ComponentLink1URL: http://www.nxp.com/; ComponentLink2Description: Datasheet; ComponentLink2URL: http://www.nxp.com/documents/data_sheet/PSMN1R5-30BLE.pdf; ComponentLink3Description: Package Specification; ComponentLink3URL: http://www.nxp.com/documents/outline_drawing/sot404_po.pdf
footprint NXP-SOT404_N (DPAK, 3-Leads, Body 10.3x9.8mm, Pitch 2.54mm, IPC Medium Density)
footprint NXP-SOT404_L (DPAK, 3-Leads, Body 10.3x9.8mm, Pitch 2.54mm, IPC High Density)
footprint NXP-SOT404_M (DPAK, 3-Leads, Body 10.3x9.8mm, Pitch 2.54mm, IPC Low Density)
pins: 1 G "gate", 3 S "source", 4 D "mounting base; connected to drain"

## PSMN1R5-30YL,115
designator Q?
N-Channel Logic Level MOSFET, 30 V, 100 A, 5-Pin SOT669, Tape and Reel; Manufacturer: NXP Semiconductors; PartNumber: PSMN1R5-30YL,115; Channel Type: N; Ciss [typ] (pF): 5057; Coss [typ] (pF): 1082; ID [max] (A): 100; Packing: Tape & Reel; Qr [typ] (nC): 56; VDS [max] (V): 30; VGSth [typ] (V): 1.7; DatasheetVersion: Rev. 01; PackageVersion: 13-02-27, 02/2013; PackageReference: SOT669; PackageDescription: 4-Pin Plastic Single-ended Surface Mounted Package, Body 4.9 x 3.95 mm, Pitch 1.27 mm; Supplier 1: Digi-Key; Supplier Part Number 1: 568-5589-2-ND; Supplier 2: Digi-Key; Supplier Part Number 2: 568-5589-1-ND; Supplier 3: Digi-Key; Supplier Part Number 3: 568-5589-6-ND; Supplier 4: Mouser; Supplier Part Number 4: 771-PSMN1R530YL115; Mounting Technology: Surface Mount; Code_JEDEC: MO-235; ComponentLink1Description: Manufacturer URL; ComponentLink1URL: http://www.nxp.com/; ComponentLink2Description: Datasheet; ComponentLink2URL: http://www.nxp.com/documents/data_sheet/PSMN1R5-30YL.pdf; ComponentLink3Description: Package Specification; ComponentLink3URL: http://www.nxp.com/documents/outline_drawing/sot669_po.pdf
footprint NXP-SOT669_N (DPAK, 4-Leads, Body 5x4.1mm, Pitch 1.27mm, IPC Medium Density)
footprint NXP-SOT669_L (DPAK, 4-Leads, Body 5x4.1mm, Pitch 1.27mm, IPC High Density)
footprint NXP-SOT669_M (DPAK, 4-Leads, Body 5x4.1mm, Pitch 1.27mm, IPC Low Density)
pins: 1 S "source", 2 S "source", 3 S "source", 4 G "gate", 5 D "mounting base; connected to drain"
text: 1, 2, 3

## PSMN1R5-30YLC,115
designator Q?
N-Channel Logic Level MOSFET Using NextPower Technology, 30 V, 100 A, 5-Pin SOT669, Tape and Reel; Manufacturer: NXP Semiconductors; PartNumber: PSMN1R5-30YLC,115; Channel Type: N; Ciss [typ] (pF): 4044; Coss [typ] (pF): 860; ID [max] (A): 100; Packing: Tape & Reel; Qr [typ] (nC): 43; VDS [max] (V): 30; VGSth [typ] (V): 1.51; DatasheetVersion: Rev. 2; PackageVersion: 13-02-27, 02/2013; PackageReference: SOT669; PackageDescription: 4-Pin Plastic Single-ended Surface Mounted Package, Body 4.9 x 3.95 mm, Pitch 1.27 mm; Supplier 1: Digi-Key; Supplier Part Number 1: 568-6727-2-ND; Supplier 2: Digi-Key; Supplier Part Number 2: 568-6727-1-ND; Supplier 3: Digi-Key; Supplier Part Number 3: 568-6727-6-ND; Supplier 4: Mouser; Supplier Part Number 4: 771-PSMN1R530YLC115; Mounting Technology: Surface Mount; Code_JEDEC: MO-235; ComponentLink1Description: Manufacturer URL; ComponentLink1URL: http://www.nxp.com/; ComponentLink2Description: Datasheet; ComponentLink2URL: http://www.nxp.com/documents/data_sheet/PSMN1R5-30YLC.pdf; ComponentLink3Description: Package Specification; ComponentLink3URL: http://www.nxp.com/documents/outline_drawing/sot669_po.pdf
footprint NXP-SOT669_N (DPAK, 4-Leads, Body 5x4.1mm, Pitch 1.27mm, IPC Medium Density)
footprint NXP-SOT669_L (DPAK, 4-Leads, Body 5x4.1mm, Pitch 1.27mm, IPC High Density)
footprint NXP-SOT669_M (DPAK, 4-Leads, Body 5x4.1mm, Pitch 1.27mm, IPC Low Density)
pins: 1 S "source", 2 S "source", 3 S "source", 4 G "gate", 5 D "mounting base; connected to drain"
text: 1, 2, 3

## PSMN1R5-40ES,127
designator Q?
N-Channel Standard Level MOSFET, 40 V, 120 A, 3-Pin SOT226, Rail; Manufacturer: NXP Semiconductors; PartNumber: PSMN1R5-40ES,127; Channel Type: N; Ciss [typ] (pF): 9710; Coss [typ] (pF): 2042; ID [max] (A): 120; Qr [typ] (nC): 117; VDS [max] (V): 40; VGSth [typ] (V): 3; DatasheetVersion: Rev. 01; PackageVersion: 09-08-25, 08/2009; PackageReference: SOT226; PackageDescription: 3-Pin Flange Mount, Vertical Straight Lead, Body 10 x 4.3 mm, Pitch 2.54 mm; Supplier 1: Digi-Key; Supplier Part Number 1: 568-6717-5-ND; Supplier 2: Mouser; Supplier Part Number 2: 771-PSMN1R540ES127; Packing: Rail; Mounting Technology: Through Hole; Code_JEDEC: TO-262; ComponentLink1Description: Manufacturer URL; ComponentLink1URL: http://www.nxp.com/; ComponentLink2Description: Datasheet; ComponentLink2URL: http://www.nxp.com/documents/data_sheet/PSMN1R5-40ES.pdf; ComponentLink3Description: Package Specification; ComponentLink3URL: http://www.nxp.com/documents/outline_drawing/sot226_po.pdf
footprint NXP-SOT226 (FM, 3-Leads, Body 10.3x4.5mm, Pitch 2.54mm)
pins: 1 G "gate", 2 D "drain", 3 S "source"

## PSMN1R5-40PS,127
designator Q?
N-Channel Standard Level MOSFET, 40 V, 150 A, 3-Pin SOT78, Tube; Manufacturer: NXP Semiconductors; PartNumber: PSMN1R5-40PS,127; Channel Type: N; Ciss [typ] (pF): 9710; Coss [typ] (pF): 2042; ID [max] (A): 150; Qr [typ] (nC): 117; VDS [max] (V): 40; VGSth [typ] (V): 3; PackageVersion: 08-06-13, 06/2008; PackageReference: SOT78; PackageDescription: 3-Pin Flange Mount, Vertical Straight Lead, Body 10 x 4.4 mm, Pitch 2.54 mm; Supplier 1: Digi-Key; Supplier Part Number 1: 568-6716-5-ND; Supplier 2: Newark; Supplier Part Number 2: 54T9418; Supplier 3: Mouser; Supplier Part Number 3: 771-PSMN1R540PS127; Packing: Tube; Mounting Technology: Through Hole; Code_JEITA: SC-46; Code_JEDEC: 3-lead TO-220AB; ComponentLink1Description: Manufacturer URL; ComponentLink1URL: http://www.nxp.com/; ComponentLink2Description: Datasheet; ComponentLink2URL: http://www.nxp.com/documents/data_sheet/PSMN1R5-40PS.pdf; ComponentLink3Description: Package Specification; ComponentLink3URL: http://www.nxp.com/documents/outline_drawing/sot078_po.pdf
footprint NXP-SOT78 (FM, 3-Leads, Body 10.3x4.7mm, Pitch 2.54mm)
pins: 1 G "gate", 2 D "drain", 3 S "source"

## PSMN1R6-30BL,118
designator Q?
N-Channel Logic Level MOSFET, 30 V, 100 A, 3-Pin SOT404, Tape and Reel; Manufacturer: NXP Semiconductors; PartNumber: PSMN1R6-30BL,118; Channel Type: N; Ciss [typ] (pF): 12493; Coss [typ] (pF): 2486; ID [max] (A): 100; Packing: Tape & Reel; Qr [typ] (nC): 79; VDS [max] (V): 30; VGSth [typ] (V): 1.7; DatasheetVersion: Rev. 1; PackageVersion: 13-02-25, 02/2013; PackageReference: SOT404; PackageDescription: 3-Pin Plastic Single-ended Surface Mounted Package, Body 10 x 9.6 mm, Pitch 2.54 mm; Supplier 1: Digi-Key; Supplier Part Number 1: 568-9481-2-ND; Supplier 2: Digi-Key; Supplier Part Number 2: 568-9481-1-ND; Supplier 3: Digi-Key; Supplier Part Number 3: 568-9481-6-ND; Supplier 4: Mouser; Supplier Part Number 4: 771-PSMN1R6-30BL,118; Mounting Technology: Surface Mount; ComponentLink1Description: Manufacturer URL; ComponentLink1URL: http://www.nxp.com/; ComponentLink2Description: Datasheet; ComponentLink2URL: http://www.nxp.com/documents/data_sheet/PSMN1R6-30BL.pdf; ComponentLink3Description: Package Specification; ComponentLink3URL: http://www.nxp.com/documents/outline_drawing/sot404_po.pdf
footprint NXP-SOT404_N (DPAK, 3-Leads, Body 10.3x9.8mm, Pitch 2.54mm, IPC Medium Density)
footprint NXP-SOT404_L (DPAK, 3-Leads, Body 10.3x9.8mm, Pitch 2.54mm, IPC High Density)
footprint NXP-SOT404_M (DPAK, 3-Leads, Body 10.3x9.8mm, Pitch 2.54mm, IPC Low Density)
pins: 1 G "gate", 3 S "source", 4 D "mounting base; connected to drain"

## PSMN1R6-30PL,127
designator Q?
N-Channel Logic Level MOSFET, 30 V, 100 A, 3-Pin SOT78, Tube; Manufacturer: NXP Semiconductors; PartNumber: PSMN1R6-30PL,127; Channel Type: N; Ciss [typ] (pF): 12493; Coss [typ] (pF): 2486; ID [max] (A): 100; Qr [typ] (nC): 79; VDS [max] (V): 30; VGSth [typ] (V): 1.7; DatasheetVersion: Rev. 02; PackageVersion: 08-06-13, 06/2008; PackageReference: SOT78; PackageDescription: 3-Pin Flange Mount, Vertical Straight Lead, Body 10 x 4.4 mm, Pitch 2.54 mm; Supplier 1: Digi-Key; Supplier Part Number 1: 568-4900-5-ND; Supplier 2: Newark; Supplier Part Number 2: 70R7953; Supplier 3: Mouser; Supplier Part Number 3: 771-PSMN1R6-30PL,127; Packing: Tube; Mounting Technology: Through Hole; Code_JEITA: SC-46; Code_JEDEC: 3-lead TO-220AB; ComponentLink1Description: Manufacturer URL; ComponentLink1URL: http://www.nxp.com/; ComponentLink2Description: Datasheet; ComponentLink2URL: http://www.nxp.com/documents/data_sheet/PSMN1R6-30PL.pdf; ComponentLink3Description: Package Specification; ComponentLink3URL: http://www.nxp.com/documents/outline_drawing/sot078_po.pdf
footprint NXP-SOT78 (FM, 3-Leads, Body 10.3x4.7mm, Pitch 2.54mm)
pins: 1 G "gate", 2 D "drain", 3 S "source"